# Altium schematic symbol library OY100KE.SchLib: 1 symbol
Pins are listed as number, name and electrical type; pins without a type are passive.

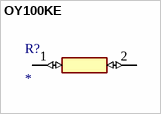
[diagram p0: symbol OY100KE]

## OY100KE
designator R?
10 Ohms Â±10% 2W Through Hole Resistor Axial Moisture Resistant, Pulse Withstanding Ceramic; MF: Ohmite; MP: OY100KE; Package: Axial Ohmite; Price: None; Check_prices: https://www.snapeda.com/parts/OY100KE/Ohmite/view-part/?ref=eda; Value: *; SnapEDA_Link: https://www.snapeda.com/parts/OY100KE/Ohmite/view-part/?ref=snap; Availability: In Stock; Purchase-URL: https://pricing.snapeda.com/search/part/OY100KE/?ref=eda
footprint RESAD4700W80L1900D700
pins: 1 (io), 2 (io)